# Altium schematic symbol library TPS717.SchLib: 2 symbols
Pins are listed as number, name and electrical type; pins without a type are passive.

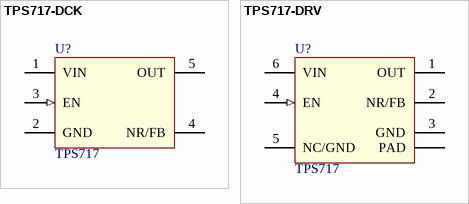
[diagram p0: symbols TPS717-DCK to TPS717-DRV]

## TPS717-DCK
designator U?, comment TPS717
Low-Noise, High-Bandwidth PSRR, Low-Dropout, 150-mA Linear Regulator; value: TPS717-Q1
footprint SOT-23-5 (Footprint not found)
pins: 1 VIN (power), 2 GND (power), 3 EN (in), 4 NR/FB, 5 OUT (power)

## TPS717-DRV
designator U?, comment TPS717
Low-Noise, High-Bandwidth PSRR, Low-Dropout, 150-mA Linear Regulator; value: TPS717-Q1
footprint WSON-6-2X2 (WSON, 6-Leads, Body 2.00x2.00mm, Pitch 0.65mm, Thermal Pad 0.00x0.00mm, IPC Medium Density)
pins: 1 OUT (power), 2 NR/FB, 3 GND (power), 4 EN (in), 5 NC/GND, 6 VIN (power), 7 PAD (power)